# EAGLE library part TJA1020 (library mylib)
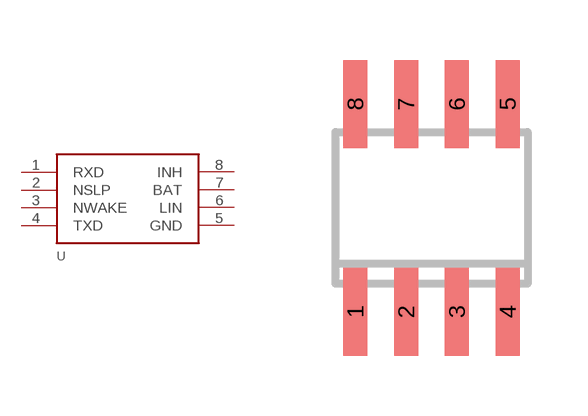
[diagram p4: symbol with the pads of SOT96-1; footprint SOT96-1]

Designator prefix -

## TJA1020  [SOT96-1]
1  RXD
2  NSLP
3  NWAKE
4  TXD
5  GND
6  LIN
7  BAT
8  INH

## Footprint SOT96-1 (pad centres in mm)
Small Outline Narrow Plastic Gull Wing 150-mil body, package type SN
smd 0.6 x 2.2: 1 -1.905,-2.6; 2 -0.635,-2.6; 3 0.635,-2.6; 4 1.905,-2.6; 5 1.905,2.6; 6 0.635,2.6; 7 -0.635,2.6; 8 -1.905,2.6